# EAGLE library part CCS811 (library UNKNOWN-2024)
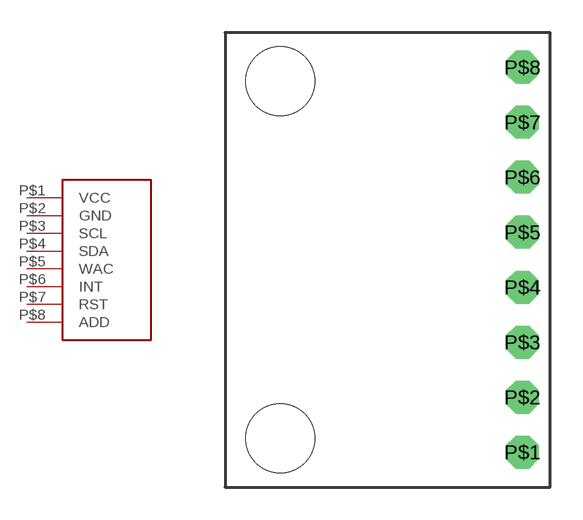
[diagram p24: symbol with the pads of CSS811; footprint CSS811]

Designator prefix -

## CCS811  [CSS811]
P$1  VCC
P$2  GND
P$3  SCL
P$4  SDA
P$5  WAC
P$6  INT
P$7  RST
P$8  ADD

## Footprint CSS811 (pad centres in mm)
drill 1.016 octagon: P$1 6.23,-8.89; P$2 6.23,-6.35; P$3 6.23,-3.81; P$4 6.23,-1.27; P$5 6.23,1.27; P$6 6.23,3.81; P$7 6.23,6.35; P$8 6.23,8.89
hole 3.2 at -4.95,-8.25
hole 3.2 at -4.95,8.25